# Altium schematic symbol library PASSIVES-NPCAP.SCHLIB: 1 symbol
Pins are listed as number, name and electrical type; pins without a type are passive.

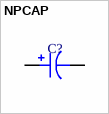
[diagram p0: symbol NPCAP]

## NPCAP
designator C?
pins: 1, 2